# EAGLE library part STLM75 (library misc)
Digital temperature sensor and thermal watchdog
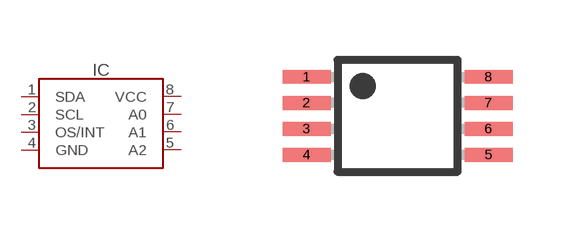
[diagram p31: symbol with the pads of MSOP8; footprint MSOP8]

Designator prefix IC

## STLM75 (MANF: STMicroelectronics; MANF#: STLM75DS2F)  [MSOP8]
1  SDA
2  SCL
3  OS/INT
4  GND
5  A2
6  A1
7  A0
8  VCC

## Footprint MSOP8 (pad centres in mm)
smd 1.2 x 0.35: 1 -2.275,0.975; 2 -2.275,0.325; 3 -2.275,-0.325; 4 -2.275,-0.975; 5 2.275,-0.975; 6 2.275,-0.325; 7 2.275,0.325; 8 2.275,0.975